# Altium footprint library cheese_cave.PcbLib: 28 footprints (part 2 of 2)
Each footprint in its own frame and in the unit in brackets; x right, y up, seen from the top. Pads: shape width x height; smd on the part's side, far side on the other; paste and mask are expansions set on the pad; w line width, h text height; cw(c..) or ccw(c..) is an arc to the next point about the centre after c.
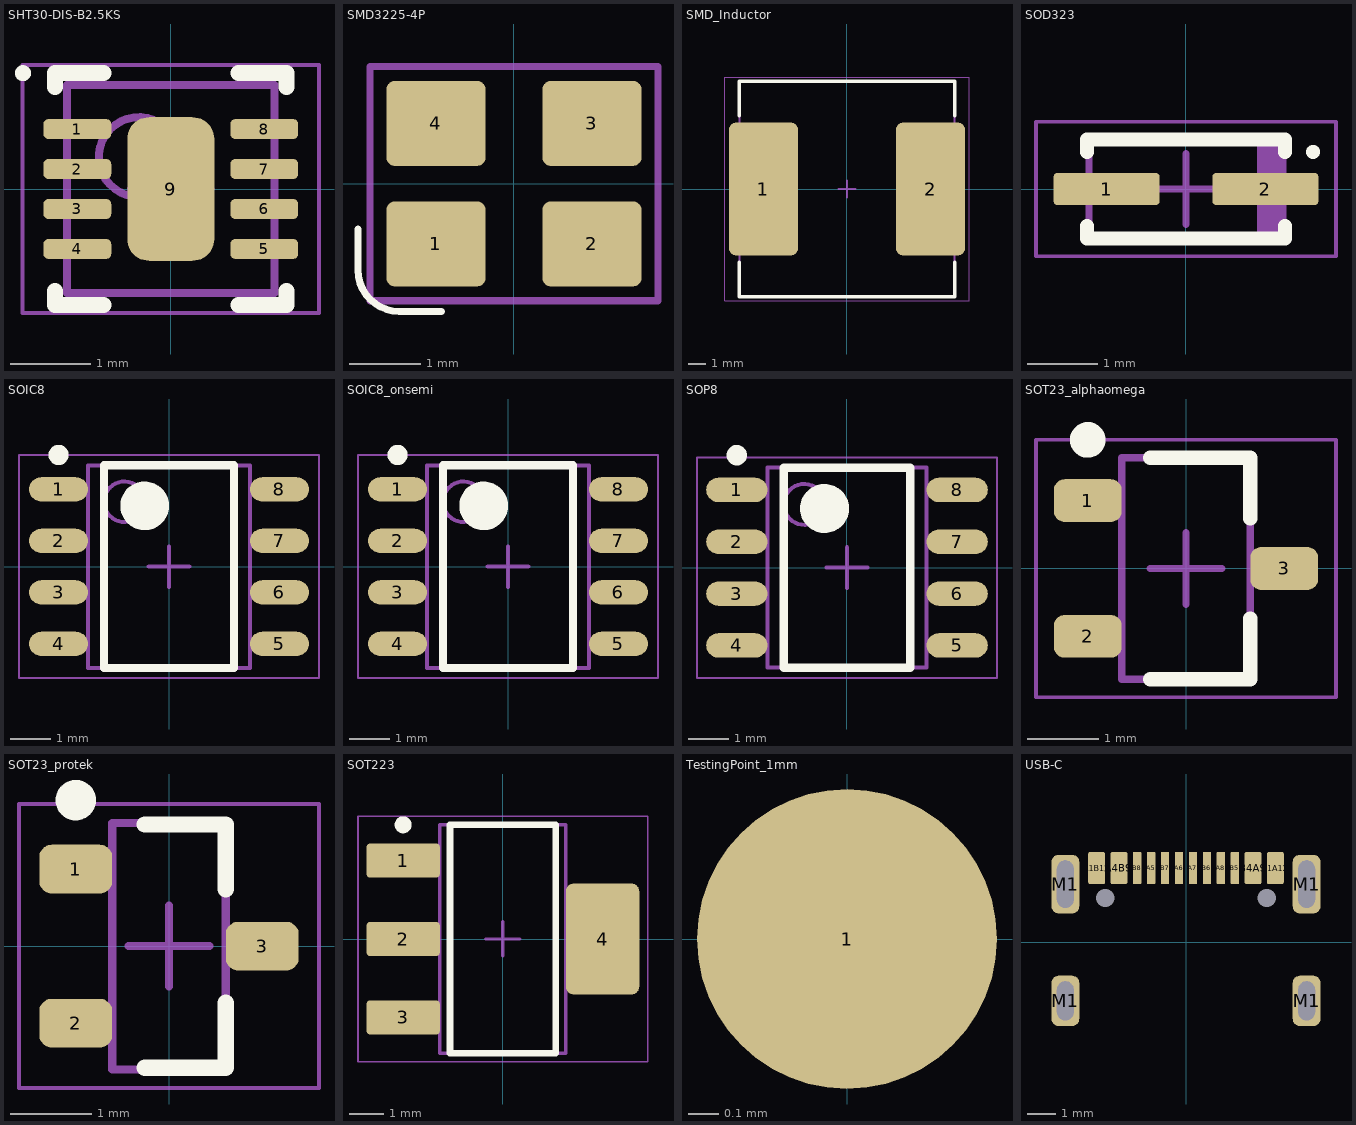
[diagram p1: the footprints below, top view; thin cyan lines are the x and y axes]

## SHT30-DIS-B2.5KS [mm] "SON, 8-Leads, Body 2.50x2.50mm, Pitch 0.50mm, Thermal Pad 1.80x1.09mm, IPC Medium Density"
height 1
pads (9):
  rrect50% 0.85x0.25 smd: 1(-1.17,0.75) 2(-1.17,0.25) 3(-1.17,-0.25) 4(-1.17,-0.75) 5(1.17,-0.75) 6(1.17,-0.25) 7(1.17,0.25) 8(1.17,0.75)
  rrect50% 1.09x1.8 smd: 9(0,0)
Top Overlay:
  circle w0.1: c-1.85,1.45 r0.05
  lines w0.2: -1.45,-1.275 -1.45,-1.45 -0.845,-1.45 ; -1.45,1.275 -1.45,1.45 -0.845,1.45 ; 0.845,-1.45 1.45,-1.45 1.45,-1.275 ; 0.845,1.45 1.45,1.45 1.45,1.275
Mechanical 13:
  circle w0.1: c-0.4,0.4 r0.5
  lines w0.1: -1.3,-1.3 -1.3,1.3 1.3,1.3 1.3,-1.3 -1.3,-1.3
Mechanical 15:
  lines w0.05: -1.855,-1.55 -1.855,1.55 1.855,1.55 1.855,-1.55 -1.855,-1.55
  lines w0.1: -0.5,0 0.5,0 ; 0,-0.5 0,0.5
3D body "SON50P250X100_HS-9N.step": height 1, standoff 0, extent -1.301,-1.3 1.301,1.3

## SMD3225-4P [mm] "Crystal footprint"
pads (4):
  rrect20% 1.4x1.2 smd: 1(-1.1,-0.85) 2(1.1,-0.85) 3(1.1,0.85) 4(-1.1,0.85)
Top Overlay:
  lines w0.1: -2.2,-0.639 -2.2,-1.22 ccw(c-1.62,-1.22) -1.62,-1.8 -1.605,-1.8 ; -1.605,-1.8 -1.024,-1.8 -1.605,-1.8
Mechanical 15:
  lines w0.1: -2.032,-1.651 -2.032,1.651 2.032,1.651 2.032,-1.651 -2.032,-1.651
3D body "NX3225SA.step": height 0.55, standoff 0, extent -1.6,-1.25 1.6,1.25

## SMD_Inductor [mm] "Precision Wire Wound Inductor, 2-Leads, Body 12.15x12.15mm, IPC Medium Density"
height 8
pads (2):
  rrect20% 3.95x7.6 smd: 1(-4.775,0) 2(4.775,0)
Top Overlay:
  lines w0.2: -6.15,-4.2 -6.15,-6.15 6.15,-6.15 6.15,-4.2 ; -6.15,4.2 -6.15,6.15 6.15,6.15 6.15,4.2
Mechanical 13:
  lines w0.1: -6.15,-6.15 -6.15,6.15 6.15,6.15 6.15,-6.15 -6.15,-6.15
Mechanical 15:
  lines w0.05: -6.975,-6.4 -6.975,6.4 6.975,6.4 6.975,-6.4 -6.975,-6.4
  lines w0.1: -0.5,0 0.5,0 ; 0,-0.5 0,0.5
3D body "INDP122122X80N.step": height 8.1, standoff 0, extent -6.175,-6.075 6.175,6.075

## SOD323 [mm] "Molded Diode, 2-Leads, Body 2.50x1.30mm, IPC Medium Density"
height 1
pads (2):
  rrect20% 1.5x0.45 smd: 1(-1.125,0) 2(1.125,0)
Top Overlay:
  circle w0.1: c1.8,0.525 r0.05
  lines w0.2: -1.4,-0.525 -1.4,-0.7 1.4,-0.7 1.4,-0.525 ; -1.4,0.525 -1.4,0.7 1.4,0.7 1.4,0.525
Mechanical 13:
  rectangle: 1.005,-0.7 1.375,0.7
  lines w0.1: -1.375,-0.7 1.375,-0.7 1.375,0.7 -1.375,0.7 -1.375,-0.7
Mechanical 15:
  lines w0.05: -2.125,-0.95 2.125,-0.95 2.125,0.95 -2.125,0.95 -2.125,-0.95
  lines w0.1: -0.5,0 0.5,0 ; 0,-0.5 0,0.5
3D body "DIOM2513X10N.step": height 1, standoff 0, extent -1.595,-0.7 1.595,0.7

## SOIC8 [mm] "SOIC, 8-Leads, Body 4.91x3.90mm, Pitch 1.27mm, IPC Medium Density"
height 1.75
pads (8):
  oval 1.45x0.6 smd: 1(-2.725,1.905) 2(-2.725,0.635) 3(-2.725,-0.635) 4(-2.725,-1.905) 5(2.725,-1.905) 6(2.725,-0.635) 7(2.725,0.635) 8(2.725,1.905)
Top Overlay:
  circle w0.25: c-2.725,2.755 r0.125
  circle w0.6: c-0.6,1.5 r0.3
  lines w0.2: -1.6,-2.5 -1.6,2.5 1.6,2.5 1.6,-2.5 -1.6,-2.5
Mechanical 13:
  circle w0.1: c-1.1,1.6 r0.5
  lines w0.1: -2,-2.5 -2,2.5 2,2.5 2,-2.5 -2,-2.5
Mechanical 15:
  lines w0.05: -3.7,-2.75 -3.7,2.75 3.7,2.75 3.7,-2.75 -3.7,-2.75
  lines w0.1: -0.5,0 0.5,0 ; 0,-0.5 0,0.5
3D body "SOIC127P600X175-8N.step": height 1.75, standoff 0, extent -2.997,-2.5 2.997,2.5

## SOIC8_onsemi [mm] "SOIC, 8-Leads, Body 4.90x3.90mm, Pitch 1.27mm, IPC Medium Density"
height 1.75
pads (8):
  oval 1.45x0.6 smd: 1(-2.725,1.905) 2(-2.725,0.635) 3(-2.725,-0.635) 4(-2.725,-1.905) 5(2.725,-1.905) 6(2.725,-0.635) 7(2.725,0.635) 8(2.725,1.905)
Top Overlay:
  circle w0.25: c-2.725,2.755 r0.125
  circle w0.6: c-0.6,1.5 r0.3
  lines w0.2: -1.6,-2.5 -1.6,2.5 1.6,2.5 1.6,-2.5 -1.6,-2.5
Mechanical 13:
  circle w0.1: c-1.1,1.6 r0.5
  lines w0.1: -2,-2.5 -2,2.5 2,2.5 2,-2.5 -2,-2.5
Mechanical 15:
  lines w0.05: -3.7,-2.75 -3.7,2.75 3.7,2.75 3.7,-2.75 -3.7,-2.75
  lines w0.1: -0.5,0 0.5,0 ; 0,-0.5 0,0.5
3D body "SOIC127P600X175-8N.step": height 1.75, standoff 0, extent -3,-2.5 3,2.5

## SOP8 [mm] "SOP, 8-Leads, Body 4.90x3.90mm, Pitch 1.27mm, IPC Medium Density"
height 1.75
pads (8):
  oval 1.5x0.6 smd: 1(-2.7,1.905) 2(-2.7,0.635) 3(-2.7,-0.635) 4(-2.7,-1.905) 5(2.7,-1.905) 6(2.7,-0.635) 7(2.7,0.635) 8(2.7,1.905)
Top Overlay:
  circle w0.6: c-0.55,1.45 r0.3
  circle w0.25: c-2.7,2.755 r0.125
  lines w0.2: -1.55,-2.45 1.55,-2.45 1.55,2.45 -1.55,2.45 -1.55,-2.45
Mechanical 13:
  circle w0.1: c-1.05,1.55 r0.5
  lines w0.1: -1.95,-2.45 1.95,-2.45 1.95,2.45 -1.95,2.45 -1.95,-2.45
Mechanical 15:
  lines w0.05: -3.675,-2.7 3.675,-2.7 3.675,2.7 -3.675,2.7 -3.675,-2.7
  lines w0.1: -0.5,0 0.5,0 ; 0,-0.5 0,0.5
3D body "SOP127P600X175-8N.step": height 1.75, standoff 0, extent -3,-2.45 3,2.45

## SOT23_alphaomega [mm] "SOT23, 3-Leads, Body 2.95x2.80mm, Pitch 0.95mm, IPC Medium Density"
height 1.25
pads (3):
  rrect50% 0.95x0.6 smd: 1(-1.375,0.95) 2(-1.375,-0.95) 3(1.375,0)
Top Overlay:
  circle w0.25: c-1.375,1.8 r0.125
  lines w0.2: -0.5,-1.55 0.9,-1.55 0.9,-0.7 ; -0.5,1.55 0.9,1.55 0.9,0.7
Mechanical 13:
  lines w0.1: -0.9,-1.55 -0.9,1.55 0.9,1.55 0.9,-1.55 -0.9,-1.55
Mechanical 15:
  lines w0.05: -2.1,-1.8 -2.1,1.8 2.1,1.8 2.1,-1.8 -2.1,-1.8
  lines w0.1: -0.5,0 0.5,0 ; 0,-0.5 0,0.5
3D body "SOT95P280X125-3N.step": height 1.25, standoff 0, extent -1.5,-1.55 1.5,1.55

## SOT23_protek [mm] "SOT23, 3-Leads, Body 2.92x2.30mm, Pitch 0.95mm, IPC Medium Density"
height 1.11
pads (3):
  rrect50% 0.9x0.6 smd: 1(-1.15,0.95) 2(-1.15,-0.95) 3(1.15,0)
Top Overlay:
  circle w0.25: c-1.15,1.8 r0.125
  lines w0.2: -0.3,-1.5 0.7,-1.5 0.7,-0.7 ; -0.3,1.5 0.7,1.5 0.7,0.7
Mechanical 13:
  lines w0.1: -0.7,-1.52 -0.7,1.52 0.7,1.52 0.7,-1.52 -0.7,-1.52
Mechanical 15:
  lines w0.05: -1.85,-1.75 -1.85,1.75 1.85,1.75 1.85,-1.75 -1.85,-1.75
  lines w0.1: -0.5,0 0.5,0 ; 0,-0.5 0,0.5
3D body "SOT95P230X111-3N.step": height 1.11, standoff 0, extent -1.25,-1.52 1.25,1.52

## SOT223 [mm] "SOT223, 4-Leads, Body 6.50x7.00mm (avg), Pitch 2.30mm, IPC Medium Density"
height 1.8
pads (4):
  rrect20% 2.15x1 smd: 1(-2.925,2.3) 2(-2.925,0) 3(-2.925,-2.3)
  rrect20% 2.15x3.25 smd: 4(2.925,0)
Top Overlay:
  circle w0.25: c-2.925,3.35 r0.125
  lines w0.2: -1.55,-3.35 1.55,-3.35 1.55,3.35 -1.55,3.35 -1.55,-3.35
Mechanical 13:
  lines w0.1: -1.85,-3.35 1.85,-3.35 1.85,3.35 -1.85,3.35 -1.85,-3.35
Mechanical 15:
  lines w0.05: -4.25,-3.6 4.25,-3.6 4.25,3.6 -4.25,3.6 -4.25,-3.6
  lines w0.1: -0.5,0 0.5,0 ; 0,-0.5 0,0.5
3D body "SOT230P700X180-4N.step": height 1.8, standoff 0, extent -3.5,-3.35 3.5,3.35

## TestingPoint_1mm [mm]
pads (1):
  round 1 smd paste-1: 1(0,0)

## USB-C [mm] "USB 2.0 type C female connector"
pads (18):
  rrect20% 0.6x1.15 smd: A1B12(-3.2,2.665) A4B9(-2.4,2.665) B1A12(3.2,2.665) B4A9(2.4,2.665)
  rrect20% 0.3x1.15 smd: A5(-1.25,2.665) A6(-0.25,2.665) A7(0.25,2.665) A8(1.25,2.665) B5(1.75,2.665) B6(0.75,2.665) B7(-0.75,2.665) B8(-1.75,2.665)
  rrect50% 1x1.8 hole 0.6 slot 1.4 at 90 deg: M1(-4.32,-2.09) M1(4.32,-2.09)
  rrect50% 1x2.1 hole 0.6 slot 1.7 at 90 deg: M1(-4.32,2.09) M1(4.32,2.09)
  round 0 hole 0.65: M2(-2.89,1.59) M2(2.89,1.59)
3D body "USB Type C Port (SMD Type).STEP": height 3.2, standoff -1, extent -4.47,-4.699 4.47,3.201